# EAGLE library part MOJA_MBI1801 (library ledd3)
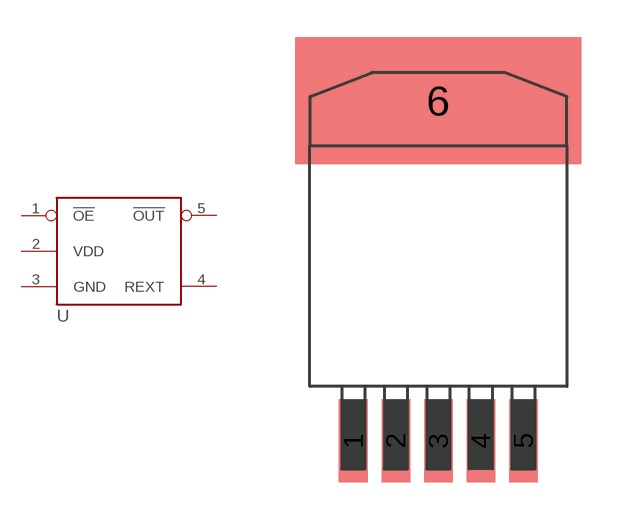
[diagram p2: symbol with the pads of MOJA_TO-265; footprint MOJA_TO-265]

Designator prefix -

## MOJA_MBI1801  [MOJA_TO-265]
1  !OE  in
2  VDD  pwr
3  GND  pwr
4  REXT
5  !OUT  out
6  GND  pwr

## Footprint MOJA_TO-265 (pad centres in mm)
smd 1.143 x 3.302: 1 -3.404,-6.807; 2 -1.702,-6.807; 3 0,-6.807; 4 1.702,-6.807; 5 3.404,-6.807
smd 11.43 x 5.08: 6 0,6.807